# Altium footprint library PCB_Ticketing_Slave.PcbLib: 16 footprints
Each footprint in its own frame and in the unit in brackets; x right, y up, seen from the top. Pads: shape width x height; smd on the part's side, far side on the other; paste and mask are expansions set on the pad; w line width, h text height; cw(c..) or ccw(c..) is an arc to the next point about the centre after c.
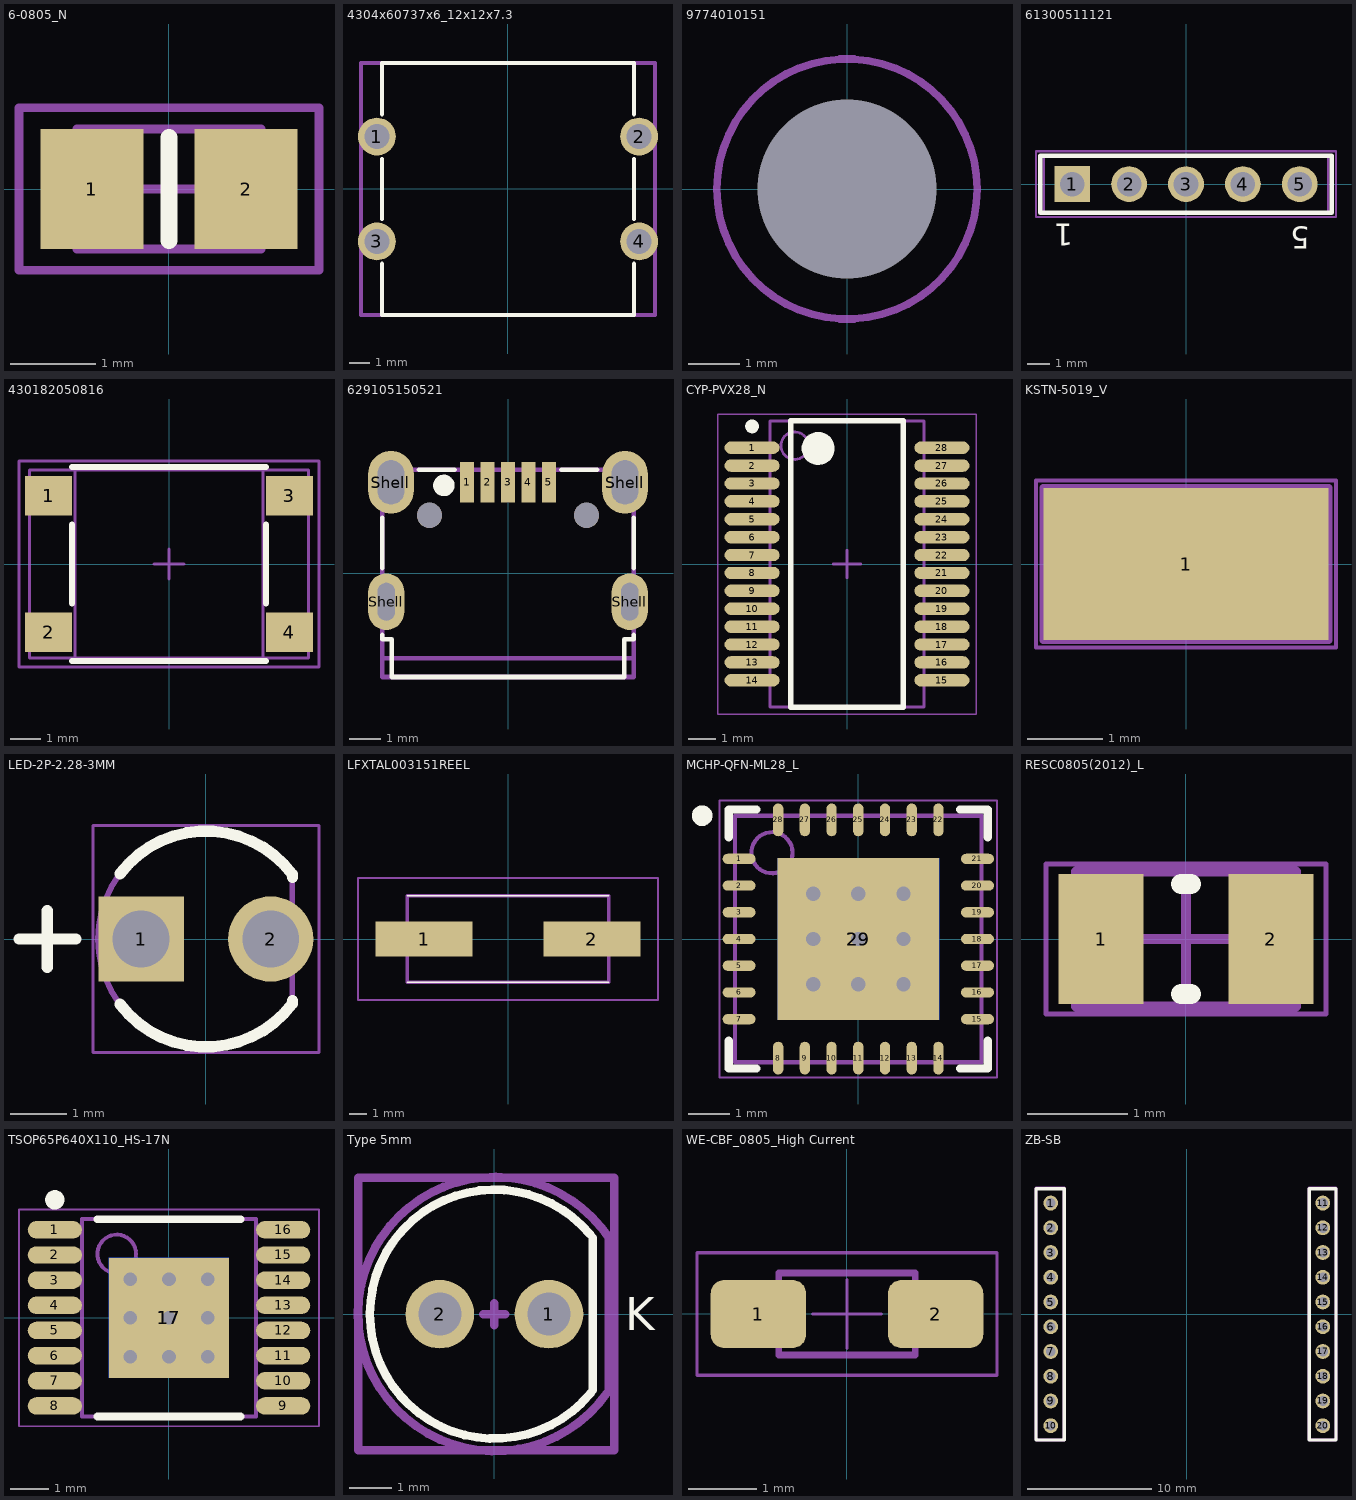
[diagram p0: the footprints below, top view; thin cyan lines are the x and y axes]

## 6-0805_N [mm] "Chip Resistor, Body 2.0x1.2mm, IPC Medium Density"
height 0.7
pads (2):
  rect 1.2x1.4 smd: 1(-0.9,0) 2(0.9,0)
Top Overlay:
  lines w0.2: 0,-0.6 0,0.6
Mechanical 13:
  lines w0.1: -1.075,-0.7 -1.075,0.7 1.075,0.7 1.075,-0.7 -1.075,-0.7
Mechanical 15:
  lines w0.1: -0.5,0 0.5,0 ; 0,-0.5 0,0.5 ; -1.75,-0.95 -1.75,0.95 1.75,0.95 1.75,-0.95 -1.75,-0.95
3D body: height 0.7, standoff 0, extent -1.075,-0.7 1.075,0.7

## 4304x60737x6_12x12x7.3 [mm] "12x12mm washable Tact Switch, THT version"
height 7.3
pads (4):
  round 1.8 hole 1.2: 1(-6.25,2.5) 2(6.25,2.5) 3(-6.25,-2.5) 4(6.25,-2.5)
Top Overlay:
  lines w0.2: -6,-3.56 -6,-6 6,-6 6,-3.56 ; -6,-1.43 -6,1.43 ; -6,3.56 -6,6 6,6 6,3.56 ; 6,-1.43 6,1.43
Mechanical 13:
  lines w0.2: -7,-6 -7,6 7,6 7,-6 -7,-6
3D body "4304x60737x6.stp": height 7.35, standoff -3.45, extent -6.985,-6 6.986,6

## 9774010151 [mm] "M2.5 Thread Internal, Length 1mm"
height 1
pads (1):
  round 0 hole 3.51 unplated paste-403.566: 1(0,0)
Top Paste:
  region: 2.939,-0.25 2.917,-0.508 2.784,-1.009 2.566,-1.478 2.269,-1.903 1.903,-2.269 1.478,-2.566 1.009,-2.784 0.508,-2.917 0.25,-2.939 0.25,-1.883 0.403,-1.857 0.699,-1.767 0.977,-1.629 1.229,-1.449 1.449,-1.229 1.629,-0.977 1.767,-0.7 1.857,-0.403 1.883,-0.25
  region: -0.25,-2.939 -0.508,-2.917 -1.009,-2.784 -1.478,-2.566 -1.903,-2.269 -2.269,-1.903 -2.566,-1.478 -2.784,-1.009 -2.917,-0.508 -2.939,-0.25 -1.883,-0.25 -1.857,-0.403 -1.767,-0.699 -1.629,-0.977 -1.449,-1.229 -1.229,-1.449 -0.977,-1.629 -0.7,-1.767 -0.403,-1.857 -0.25,-1.883
  region: -2.939,0.25 -2.917,0.508 -2.784,1.009 -2.566,1.478 -2.269,1.903 -1.903,2.269 -1.478,2.566 -1.009,2.784 -0.508,2.917 -0.25,2.939 -0.25,1.883 -0.403,1.857 -0.699,1.767 -0.977,1.629 -1.229,1.449 -1.449,1.229 -1.629,0.977 -1.767,0.7 -1.857,0.403 -1.883,0.25
  region: 0.25,2.939 0.508,2.917 1.009,2.784 1.478,2.566 1.903,2.269 2.269,1.903 2.566,1.478 2.784,1.009 2.917,0.508 2.939,0.25 1.883,0.25 1.857,0.403 1.767,0.699 1.629,0.977 1.449,1.229 1.229,1.449 0.977,1.629 0.7,1.767 0.403,1.857 0.25,1.883
Mechanical 13:
  circle w0.15: c0,0 r2.55

## 61300511121 [mm] "Pin Header, pitch 2.54 mm, THT, Vertical, single row, 5p"
height 8.54
pads (5):
  rect 1.6x1.6 hole 1.1: 1(-5.08,0)
  round 1.6 hole 1.1: 2(-2.54,0) 3(0,0) 4(2.54,0) 5(5.08,0)
Top Overlay:
  lines w0.2: -6.5,-1.27 6.5,-1.27 6.5,1.27 -6.5,1.27 -6.5,-1.27
  text "1" at -5.03,-1.778 h1
  text "5" at 5.523,-1.905 h1
Mechanical 11:
  lines w0.1: -6.35,-1.27 -6.35,1.27 6.35,1.27 6.35,-1.27 -6.35,-1.27
Mechanical 13:
  lines w0.1: -6.5,-1.27 6.5,-1.27 6.5,1.27 -6.5,1.27 -6.5,-1.27
Mechanical 15:
  lines w0.1: -0.5,0 0.5,0 ; 0,-0.5 0,0.5 ; -6.7,-1.47 6.7,-1.47 6.7,1.47 -6.7,1.47 -6.7,-1.47
3D body "61300511121.stp": height 8.57, standoff -2.97, extent -6.35,-1.27 6.35,1.27

## 430182050816 [mm] "SMD Tact Switch, body 6x6mm"
height 5
pads (4):
  rect 1.55x1.3 smd: 1(-3.975,2.25) 2(-3.975,-2.25) 3(3.975,2.25) 4(3.975,-2.25)
Top Overlay:
  lines w0.2: -3.2,-3.2 3.2,-3.2 ; -3.2,-1.3 -3.2,1.3 ; -3.2,3.2 3.2,3.2 ; 3.2,-1.3 3.2,1.3
Mechanical 11:
  lines w0.1: -3.1,-3.1 -3.1,3.1 3.1,3.1 3.1,-3.1 -3.1,-3.1
Mechanical 13:
  lines w0.1: -4.6,-3.1 -4.6,3.1 4.6,3.1 4.6,-3.1 -4.6,-3.1
Mechanical 15:
  lines w0.1: -0.5,0 0.5,0 ; 0,-0.5 0,0.5 ; -4.95,-3.4 -4.95,3.4 4.95,3.4 4.95,-3.4 -4.95,-3.4
3D body "4301x20508x6.stp": height 5.03, standoff 0.03, extent -4.5,-3.1 4.5,3.1

## 629105150521 [mm] "Micro USB 2.0 SMT Type B Horizontal 5 Contacts High Current"
height 2.66
pads (11):
  rect 0.45x1.3 smd: 1(-1.3,2.9) 2(-0.65,2.9) 3(0,2.9) 4(0.65,2.9) 5(1.3,2.9)
  oval 1.15x1.8 hole 0.55 slot 1.2 at 90 deg: Shell(-3.875,-0.9) Shell(3.875,-0.9)
  oval 1.45x2 hole 0.85 slot 1.4 at 90 deg: Shell(-3.725,2.9) Shell(3.725,2.9)
  round 0.8 hole 0.8 unplated: ""(-2.5,1.85) ""(2.5,1.85)
Top Overlay:
  circle w0.4: c-2.041,2.8 r0.141
  lines w0.15: -4,-1.96 -4,-2.1 -3.7,-2.1 -3.7,-3.3 3.7,-3.3 3.7,-2.1 4,-2.1 4,-1.96 ; -4,0.17 -4,1.77 ; -2.83,3.3 -1.7,3.3 ; 1.7,3.3 2.83,3.3 ; 4,0.17 4,1.77
Mechanical 13:
  lines w0.15: -4,-3.3 -4,3.3 4,3.3 4,-3.3 -4,-3.3
Mechanical 15:
  lines w0.15: -4,-2.7 4,-2.7
  text "PCB Edge" at -1.9,-2.4 h1
3D body "Download_STP_629105150521.stp": height 2.71, standoff -0.85, extent -4,-3.3 4,3.303

## CYP-PVX28_N [mm] "SOP, 28-Leads, Body 10.2x5.3mm, Pitch 0.65mm, IPC Medium Density"
height 2
pads (28):
  oval 2x0.45 smd: 1(-3.45,4.225) 2(-3.45,3.575) 3(-3.45,2.925) 4(-3.45,2.275) 5(-3.45,1.625) 6(-3.45,0.975) 7(-3.45,0.325) 8(-3.45,-0.325) 9(-3.45,-0.975) 10(-3.45,-1.625) 11(-3.45,-2.275) 12(-3.45,-2.925) 13(-3.45,-3.575) 14(-3.45,-4.225) 15(3.45,-4.225) 16(3.45,-3.575) 17(3.45,-2.925) 18(3.45,-2.275) 19(3.45,-1.625) 20(3.45,-0.975) 21(3.45,-0.325) 22(3.45,0.325) 23(3.45,0.975) 24(3.45,1.625) 25(3.45,2.275) 26(3.45,2.925) 27(3.45,3.575) 28(3.45,4.225)
Top Overlay:
  circle w0.25: c-3.45,5 r0.125
  circle w0.6: c-1.05,4.2 r0.3
  lines w0.2: -2.05,-5.2 -2.05,5.2 2.05,5.2 2.05,-5.2 -2.05,-5.2
Mechanical 13:
  circle w0.1: c-1.9,4.3 r0.5
  lines w0.1: -2.8,-5.2 -2.8,5.2 2.8,5.2 2.8,-5.2 -2.8,-5.2
Mechanical 15:
  lines w0.05: -4.7,-5.45 -4.7,5.45 4.7,5.45 4.7,-5.45 -4.7,-5.45
  lines w0.1: -0.5,0 0.5,0 ; 0,-0.5 0,0.5
3D body "DAC8820IBDB.STEP": height 1.75, standoff 0, extent -3,-4.95 3,4.95

## KSTN-5019_V [mm] "Test Point, 1-Leads, Body 3.81x2.03mm"
height 2.42
pads (1):
  rect 3.8x2.03 smd: 1(0,0)
Mechanical 13:
  lines w0.1: -1.905,-1.015 -1.905,1.015 1.905,1.015 1.905,-1.015 -1.905,-1.015
Mechanical 15:
  lines w0.05: -2,-1.115 2,-1.115 2,1.115 -2,1.115 -2,-1.115
  lines w0.1: -0.5,0 0.5,0 ; 0,-0.5 0,0.5
3D body "keystone-PN5019.STEP": height 2.29, standoff 0, extent -1.905,-1.015 1.905,1.017

## LED-2P-2.28-3MM [mm] "LED, 2-Leads, Dia 3mm, Pitch 2.28mm"
height 5.3
pads (2):
  rect 1.5x1.5 hole 1: 1(-1.14,0)
  round 1.5 hole 1: 2(1.14,0)
Top Overlay:
  lines w0.2: -3.29,0 -2.29,0 ; -2.79,-0.5 -2.79,0.5 ; -1.512,-1.151 ccw(c0,0) 1.52,-1.14 1.524,-1.085 ; -1.512,1.151 cw(c0,0) 1.52,1.14 1.524,1.085
Mechanical 13:
  lines w0.1: 1.52,-1.14 cw(c0,0) 1.52,1.14 1.52,-1.14
Mechanical 15:
  lines w0.05: -1.99,-2 -1.99,2 1.99,2 1.99,-2 -1.99,-2
3D body: height 5.3, standoff 2.3, extent -1.498,-1.5 1.5,1.5
3D body: height 3.8, standoff 1, extent -1.5,-1.499 1.5,1.5
3D body: height 0, standoff -19, extent -1.39,-0.25 -0.89,0.25
3D body: height 0, standoff -17, extent 0.89,-0.25 1.39,0.25
3D body: height 1, standoff 0, extent -1.901,-1.911 1.521,1.911

## LFXTAL003151REEL [mm]
pads (2):
  rect 5.5x2 smd: 1(-4.75,0) 2(4.75,0)
Top Overlay:
  lines w0.1: -5.7,-2.45 5.7,-2.45 ; -5.7,2.45 5.7,2.45
Mechanical 13:
  lines w0.2: -5.7,-2.45 5.7,-2.45 5.7,2.45 -5.7,2.45 -5.7,-2.45
Mechanical 15:
  lines w0.1: -8.5,-3.45 8.5,-3.45 8.5,3.45 -8.5,3.45 -8.5,-3.45
3D body "crystal_hc-49-smd.step": height 4.2, standoff 0, extent -5.807,-2.35 5.802,2.35

## MCHP-QFN-ML28_L [mm] "QFN, 28-Leads, Body 6x6mm, Pitch 0.65mm, Thermal Pad 3.7x3.7mm, IPC High Density"
height 1
pads (30):
  oval 0.8x0.25 smd: 1(-2.9,1.95) 2(-2.9,1.3) 3(-2.9,0.65) 4(-2.9,0) 5(-2.9,-0.65) 6(-2.9,-1.3) 7(-2.9,-1.95) 15(2.9,-1.95) 16(2.9,-1.3) 17(2.9,-0.65) 18(2.9,0) 19(2.9,0.65) 20(2.9,1.3) 21(2.9,1.95)
  oval 0.25x0.8 smd: 8(-1.95,-2.9) 9(-1.3,-2.9) 10(-0.65,-2.9) 11(0,-2.9) 12(0.65,-2.9) 13(1.3,-2.9) 14(1.95,-2.9) 22(1.95,2.9) 23(1.3,2.9) 24(0.65,2.9) 25(0,2.9) 26(-0.65,2.9) 27(-1.3,2.9) 28(-1.95,2.9)
  rect 3.93x3.93 smd: 29(0,0)
  rect 3.93x3.93 smd far side: 29(0,0)
via -1.1,0 diameter 0.75 hole 0.35
via 0,0 diameter 0.75 hole 0.35
via -1.1,-1.1 diameter 0.75 hole 0.35
via 0,1.1 diameter 0.75 hole 0.35
via 1.1,1.1 diameter 0.75 hole 0.35
via -1.1,1.1 diameter 0.75 hole 0.35
via 1.1,0 diameter 0.75 hole 0.35
via 0,-1.1 diameter 0.75 hole 0.35
via 1.1,-1.1 diameter 0.75 hole 0.35
Top Overlay:
  circle w0.25: c-3.8,3 r0.125
  lines w0.2: -3.15,-2.475 -3.15,-3.15 -2.475,-3.15 ; -3.15,2.475 -3.15,3.15 -2.475,3.15 ; 2.475,-3.15 3.15,-3.15 3.15,-2.475 ; 2.475,3.15 3.15,3.15 3.15,2.475
Mechanical 13:
  circle w0.1: c-2.1,2.1 r0.5
  lines w0.1: -3,-3 -3,3 3,3 3,-3 -3,-3
Mechanical 15:
  lines w0.05: -3.375,-3.375 -3.375,3.375 3.375,3.375 3.375,-3.375 -3.375,-3.375
  lines w0.1: -0.5,0 0.5,0 ; 0,-0.5 0,0.5
3D body: height 1, standoff 0, extent -3,-3 3,3

## RESC0805(2012)_L [mm] "Chip Resistor, Body 2.0x1.3mm, IPC High Density"
height 0.7
pads (2):
  rect 0.85x1.3 smd: 1(-0.85,0) 2(0.85,0)
Top Overlay:
  lines w0.2: -0.05,-0.55 0.05,-0.55 ; -0.05,0.55 0.05,0.55
Mechanical 13:
  lines w0.1: -1.1,-0.675 -1.1,0.675 1.1,0.675 1.1,-0.675 -1.1,-0.675
Mechanical 15:
  lines w0.05: -1.4,-0.75 -1.4,0.75 1.4,0.75 1.4,-0.75 -1.4,-0.75
  lines w0.1: -0.5,0 0.5,0 ; 0,-0.5 0,0.5
3D body: height 0.7, standoff 0, extent -1.1,-0.675 -0.68,0.675
3D body: height 0.7, standoff 0, extent -0.68,-0.675 0.68,0.675
3D body: height 0.7, standoff 0, extent 0.68,-0.675 1.1,0.675

## TSOP65P640X110_HS-17N [mm] "TSOP, 16-Leads, Body 5.00x4.40mm, Pitch 0.65mm, Thermal Pad 3.10x3.10mm, IPC Medium Density"
height 1.1
pads (18):
  oval 1.4x0.45 smd: 1(-2.95,2.275) 2(-2.95,1.625) 3(-2.95,0.975) 4(-2.95,0.325) 5(-2.95,-0.325) 6(-2.95,-0.975) 7(-2.95,-1.625) 8(-2.95,-2.275) 9(2.95,-2.275) 10(2.95,-1.625) 11(2.95,-0.975) 12(2.95,-0.325) 13(2.95,0.325) 14(2.95,0.975) 15(2.95,1.625) 16(2.95,2.275)
  rect 3.1x3.1 smd: 17(0,0)
  rect 3.1x3.1 smd far side: 17(0,0)
via -1,-1 diameter 0.75 hole 0.35
via 0,-1 diameter 0.75 hole 0.35
via 1,-1 diameter 0.75 hole 0.35
via -1,0 diameter 0.75 hole 0.35
via -1,1 diameter 0.75 hole 0.35
via 0,0 diameter 0.75 hole 0.35
via 0,1 diameter 0.75 hole 0.35
via 1,0 diameter 0.75 hole 0.35
via 1,1 diameter 0.75 hole 0.35
Top Overlay:
  circle w0.25: c-2.95,3.05 r0.125
  lines w0.2: -1.85,-2.55 1.85,-2.55 ; -1.85,2.55 1.85,2.55
Mechanical 13:
  circle w0.1: c-1.35,1.65 r0.5
  lines w0.1: -2.25,-2.55 -2.25,2.55 2.25,2.55 2.25,-2.55 -2.25,-2.55
Mechanical 15:
  lines w0.05: -3.875,-2.8 -3.875,2.8 3.875,2.8 3.875,-2.8 -3.875,-2.8
  lines w0.1: -0.5,0 0.5,0 ; 0,-0.5 0,0.5
3D body "TSOP65P640X110_HS-17N.step": height 1.1, standoff 0, extent -3.187,-2.55 3.187,2.55

## Type 5mm [mm] "THT, LED-5mm, 2pin- Body 5.8mm"
height 12.1
pads (2):
  round 1.6 hole 1: 1(1.27,0) 2(-1.27,0)
Top Overlay:
  lines w0.2: -2.47,1.52 cw(c0,0) 2.228,1.857 ; -2.369,1.672 ccw(c0,0) 2.239,-1.844 ; 2.286,-1.778 2.286,1.778
  text "K" at 3.048,-0.381 h0.76
Mechanical 13:
  lines w0.2: -3.175,-3.175 2.794,-3.175 2.794,3.175 -3.175,3.175 -3.175,-3.175
Mechanical 15:
  lines w0.2: -0.254,0 0.254,0 ; 0,-0.254 0,0.254 ; 2.616,-1.846 cw(c0.014,0.003) 2.667,1.778 2.667,-1.778
  text ".Designator" at 0,0 h0.76
  text "K" at 3.048,-0.381 h0.76
3D body "WL-TMRW_5mm.stp": height 11.7, standoff -23.3, extent -2.9,-2.9 2.5,2.9

## WE-CBF_0805_High Current [mm]
pads (2):
  rrect40% 1.4x1 smd: 1(-1.3,0) 2(1.3,0)
Top 3D Body:
  lines w0.1: -1,-0.6 1,-0.6 1,0.6 -1,0.6 -1,-0.6
Top Courtyard:
  lines w0.05: -0.5,0 0.5,0 ; 0,-0.5 0,0.5 ; -2.2,-0.9 -2.2,0.9 2.2,0.9 2.2,-0.9 -2.2,-0.9
3D body "WE-CBF_0805_CBF.stp": height 0.9, standoff 0, extent -1,-0.6 1,0.6

## ZB-SB [mm] "Header"
height 3.5
pads (20):
  round 1.2 hole 0.8: 1(-11,9) 2(-11,7) 3(-11,5) 4(-11,3) 5(-11,1) 6(-11,-1) 7(-11,-3) 8(-11,-5) 9(-11,-7) 10(-11,-9) 11(11,9) 12(11,7) 13(11,5) 14(11,3) 15(11,1) 16(11,-1) 17(11,-3) 18(11,-5) 19(11,-7) 20(11,-9)
Top Overlay:
  lines w0.254: -12.192,-10.16 -12.192,10.16 -10.922,10.16 -9.906,10.16 -9.906,-10.16 -12.192,-10.16 ; 9.906,-10.16 9.906,10.16 12.065,10.16 12.065,-10.16 9.906,-10.16
Mechanical 13:
  lines w0.254: -12.192,-10.16 -12.192,10.224 -9.906,10.224 -9.906,-10.16 -12.192,-10.16 ; 9.906,-10.16 9.906,10.224 12.065,10.224 12.065,-10.16 9.906,-10.16
3D body: height 6, standoff 0, extent -12.065,-10.224 -10.033,10.16
3D body: height 6, standoff 0, extent 10.033,-10.224 12.065,10.16
3D body "Xbee.STEP": height 7.5, standoff 0.1, extent -12.554,-10.34 12.446,30.66